# Altium schematic symbol library 691 253 500 0xx.SchLib: 2 symbols
Pins are listed as number, name and electrical type; pins without a type are passive.

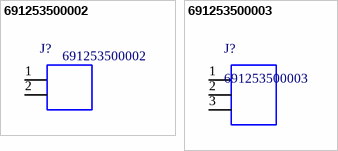
[diagram p0: symbols 691253500002 to 691253500003]

## 691253500002
designator J?
WR-TBL Vertical Cable Entry With Rising Cage Clamp,Serie 2535 - 5.08 mm; Manufacturer: Wurth Elektronik; ComponentLink1 Description: Manufacturer; ComponentLink2 Description: Datasheet; ComponentLink1URL: http://www.we-online.de; ComponentLink2URL: http://katalog.we-online.de/em/datasheet/6912535000XX.pdf; Created by: Baojun Chen; Created Date: 15.Sep.2015; partNo: 691253500002; Value: 691253500002
footprint 691253500002 (Serie 2535 - 5.08 mm _ 2 pins)
pins: 1, 2

## 691253500003
designator J?
WR-TBL Vertical Cable Entry With Rising Cage Clamp,Serie 2535 - 5.08 mm; Manufacturer: Wurth Elektronik; ComponentLink1 Description: Manufacturer; ComponentLink2 Description: Datasheet; ComponentLink1URL: http://www.we-online.de; ComponentLink2URL: http://katalog.we-online.de/em/datasheet/6912535000XX.pdf; Created by: Baojun Chen; Created Date: 15.Sep.2015; partNo: 691253500003; Value: 691253500003
footprint 691253500003 (Serie 2535 - 5.08 mm _ 3 pins)
pins: 1, 2, 3